# Altium footprint library PCB - ENCODER - BOURNS PEC11R-4315F-S0012.PcbLib: 1 footprints
Each footprint in its own frame and in the unit in brackets; x right, y up, seen from the top. Pads: shape width x height; smd on the part's side, far side on the other; paste and mask are expansions set on the pad; w line width, h text height; cw(c..) or ccw(c..) is an arc to the next point about the centre after c.
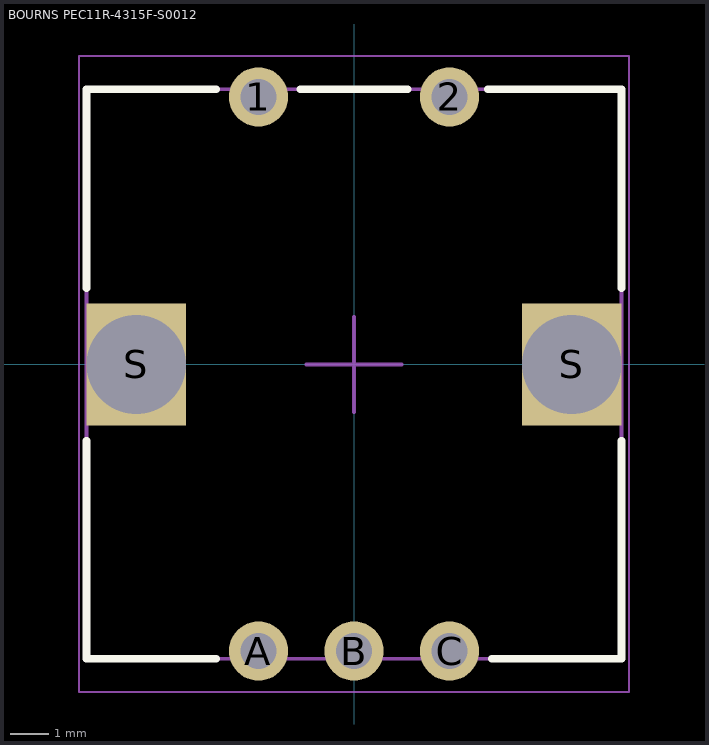
[diagram p0: the footprint, top view; thin cyan lines are the x and y axes]

## BOURNS PEC11R-4315F-S0012 [mm] "Rotary Encoder Mechanical 12 Quadrature (Incremental) Vertical, 12.5x13.4mm Body"
height 22
pads (7):
  round 1.55 hole 0.95: 1(-2.5,7) 2(2.5,7) A(-2.5,-7.5) B(0,-7.5) C(2.5,-7.5)
  rect 2.6x3.2 hole 2.6 square: S(-5.7,0) S(5.7,0)
Top Overlay:
  lines w0.2: -7,-2 -7,-7.7 -3.6,-7.7 ; -7,2 -7,7.2 -3.6,7.2 ; -1.4,7.2 1.4,7.2 ; 3.5,7.2 7,7.2 ; 7,-2 7,-7.7 ; 7,2 7,7.2 ; 3.6,-7.7 3.6,-7.7 ; 3.6,-7.7 7,-7.7 ; 7,-7.7 7,-7.7 ; 7,7.2 7,7.2
Mechanical 13:
  lines w0.1: -7,-7.7 7,-7.7 7,7.2 -7,7.2 -7,-7.7
Mechanical 15 (Mech15):
  lines w0.05: -7.2,-8.575 -7.2,8.075 7.2,8.075 7.2,-8.575 -7.2,-8.575
  lines w0.1: -1.25,0 0,0 ; 0,-1.25 0,0 ; 0,1.25 0,0 ; 1.25,0 0,0
3D body "Bourns - PEC11R-4X15F-SyyyX v2.step": height 22.1, standoff -3.6, extent -7,-7.7 7,7.2